# Altium footprint library DYBoard_Feeder_V2.PcbLib: 1 footprints
Each footprint in its own frame and in the unit in brackets; x right, y up, seen from the top. Pads: shape width x height; smd on the part's side, far side on the other; paste and mask are expansions set on the pad; w line width, h text height; cw(c..) or ccw(c..) is an arc to the next point about the centre after c.
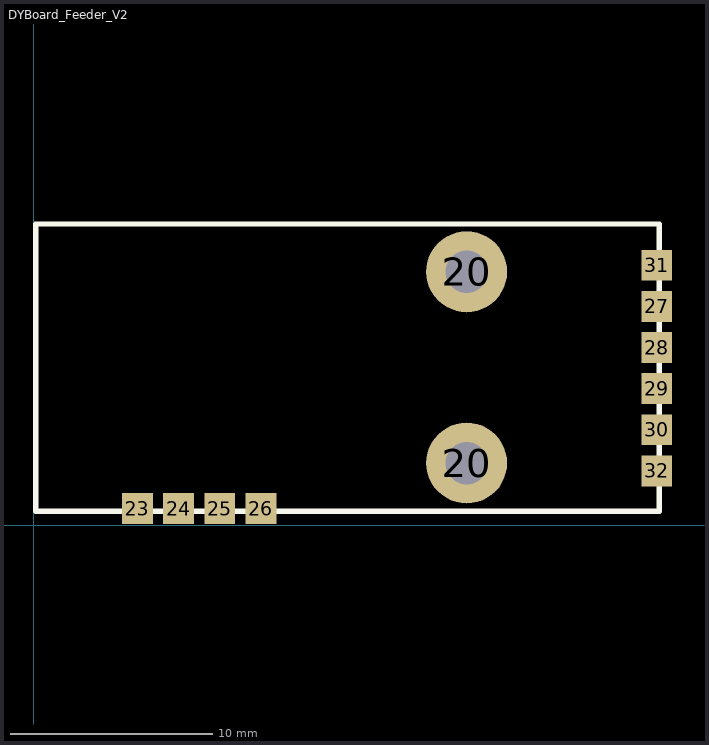
[diagram p0: the footprint, top view; thin cyan lines are the x and y axes]

## DYBoard_Feeder_V2 [mil]
pads (12):
  round 157.48 hole 82.68: 20(841.75,121.27) 20(841.75,493.31)
  rect 60x60 smd: 23(201.43,32.68) 24(281.43,32.68) 25(361.43,32.68) 26(441.43,32.68) 27(1211.63,425.99) 28(1211.63,346.01) 29(1211.63,266.01) 30(1211.63,186.03) 31(1211.63,505.99)
  rect 60x60 smd mask+4.72: 32(1211.63,106.03)
Mid-Layer 1:
  lines w10: 1188.37,82.77 1211.63,106.03
Top Overlay:
  lines w10: 3.63,27.59 3.63,586.33 1216.55,586.33 1216.55,27.59 3.63,27.59